# EAGLE library part MAX3233E (library maxim)
Dual RS-232 Transceivers with Internal Capacitors ±15kV ESD-Protected, 1µA, 250kbps, 3.3V/5V Source: http://datasheets.maxim-ic.com/en/ds/MAX3233E-MAX3235E.pdf
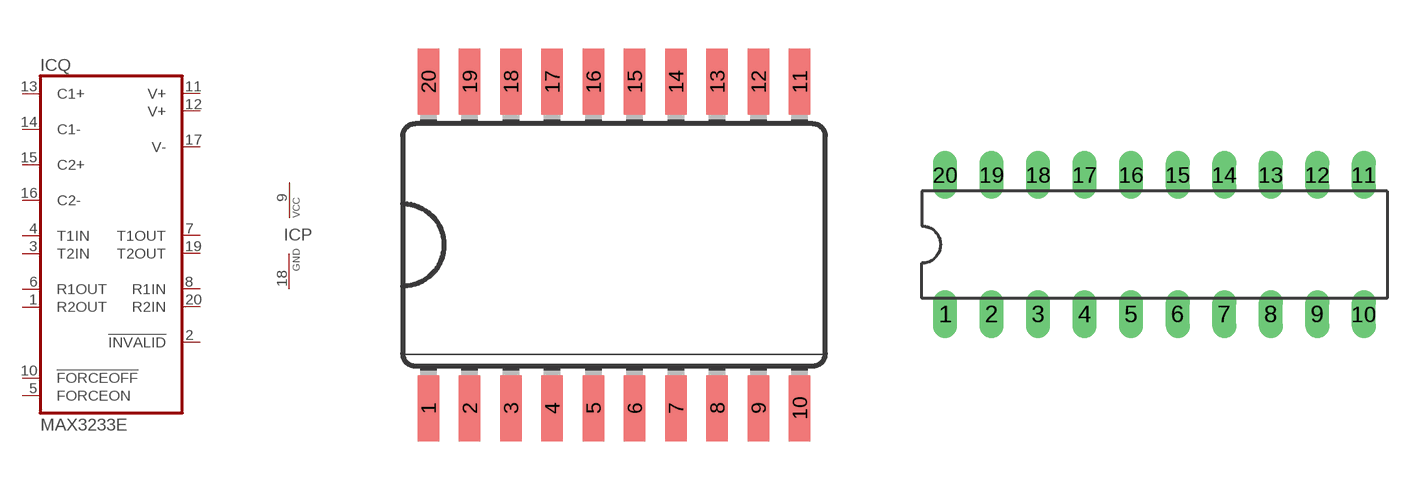
[diagram p378: symbol with the pads of SO20L; footprints SO20L, DIL20]

Designator prefix IC; gates P=VCC-GND Q=MAX3233

## MAX3233ECWP (MF: MAXIM; MPN: MAX3233ECWP; OC_FARNELL: unknown; OC_NEWARK: 77C9167), MAX3233EEWP (MPN: MAX3233EEWP+G36; OC_FARNELL: unknown; OC_NEWARK: 89K3599)  [SO20L]
1  Q:R2OUT  out
2  Q:!INVALID  out
3  Q:T2IN  in
4  Q:T1IN  in
5  Q:FORCEON  in
6  Q:R1OUT  out
7  Q:T1OUT  out
8  Q:R1IN  in
9  P:VCC  pwr
10  Q:!FORCEOFF  in
11  Q:V+  pas
12  Q:V+  pas
13  Q:C1+  pas
14  Q:C1-  pas
15  Q:C2+  pas
16  Q:C2-  pas
17  Q:V-  pas
18  P:GND  pwr
19  Q:T2OUT  out
20  Q:R2IN  in

## MAX3233ECPP (MPN: MAX3233ECPP+G36; OC_FARNELL: unknown; OC_NEWARK: 89K3596), MAX3233EEPP (MPN: MAX3233EEPP+G36; OC_FARNELL: unknown; OC_NEWARK: 89K3598)  [DIL20]
Pads as for SO20L

## Footprint SO20L (pad centres in mm)
Small Outline Package
smd 0.66 x 2.032: 1 -5.715,-5.029; 2 -4.445,-5.029; 3 -3.175,-5.029; 4 -1.905,-5.029; 5 -0.635,-5.029; 6 0.635,-5.029; 7 1.905,-5.029; 8 3.175,-5.029; 9 4.445,-5.029; 10 5.715,-5.029; 11 5.715,5.029; 12 4.445,5.029; 13 3.175,5.029; 14 1.905,5.029; 15 0.635,5.029; 16 -0.635,5.029; 17 -1.905,5.029; 18 -3.175,5.029; 19 -4.445,5.029; 20 -5.715,5.029

## Footprint DIL20 (pad centres in mm)
Dual In Line Package
drill 0.813 long: 1 -11.43,-3.81; 2 -8.89,-3.81; 3 -6.35,-3.81; 4 -3.81,-3.81; 5 -1.27,-3.81; 6 1.27,-3.81; 7 3.81,-3.81; 8 6.35,-3.81; 9 8.89,-3.81; 10 11.43,-3.81; 11 11.43,3.81; 12 8.89,3.81; 13 6.35,3.81; 14 3.81,3.81; 15 1.27,3.81; 16 -1.27,3.81; 17 -3.81,3.81; 18 -6.35,3.81; 19 -8.89,3.81; 20 -11.43,3.81